# EAGLE library part OCTO8 (library AudioInjector)
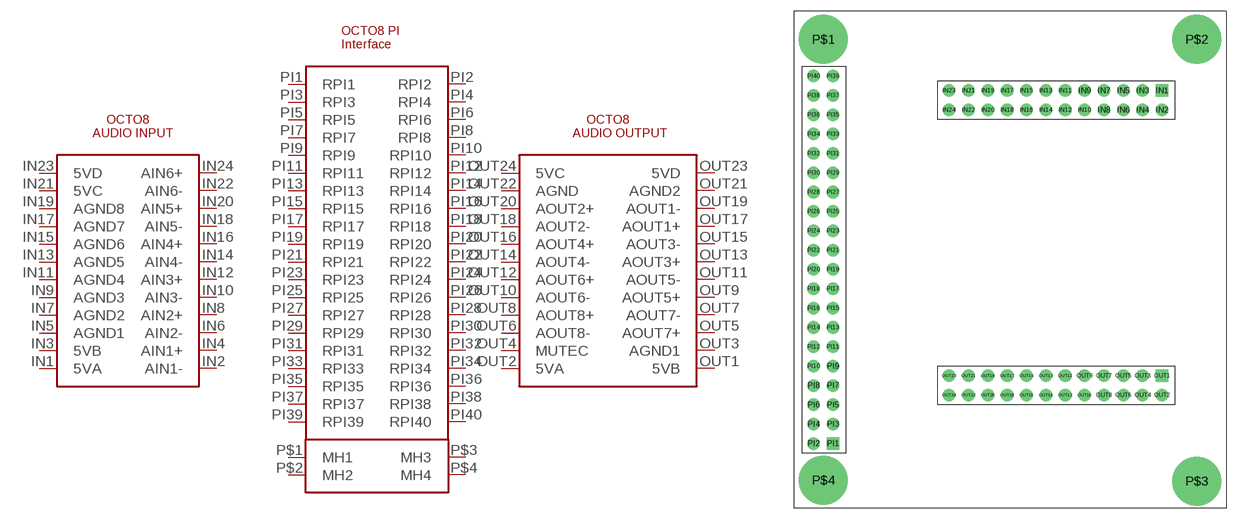
[diagram p0: symbol with the pads of OCTO8; footprint OCTO8]

Designator prefix U; gates G$1=RPI3 G$2=AUDIO_IN G$3=AUDIO_OUT

## OCTO8  [OCTO8]
IN1  G$2:5VA
IN2  G$2:AIN1-
IN3  G$2:5VB
IN4  G$2:AIN1+
IN5  G$2:AGND1
IN6  G$2:AIN2-
IN7  G$2:AGND2
IN8  G$2:AIN2+
IN9  G$2:AGND3
IN10  G$2:AIN3-
IN11  G$2:AGND4
IN12  G$2:AIN3+
IN13  G$2:AGND5
IN14  G$2:AIN4-
IN15  G$2:AGND6
IN16  G$2:AIN4+
IN17  G$2:AGND7
IN18  G$2:AIN5-
IN19  G$2:AGND8
IN20  G$2:AIN5+
IN21  G$2:5VC
IN22  G$2:AIN6-
IN23  G$2:5VD
IN24  G$2:AIN6+
OUT1  G$3:5VB
OUT2  G$3:5VA
OUT3  G$3:AGND1
OUT4  G$3:MUTEC
OUT5  G$3:AOUT7+
OUT6  G$3:AOUT8-
OUT7  G$3:AOUT7-
OUT8  G$3:AOUT8+
OUT9  G$3:AOUT5+
OUT10  G$3:AOUT6-
OUT11  G$3:AOUT5-
OUT12  G$3:AOUT6+
OUT13  G$3:AOUT3+
OUT14  G$3:AOUT4-
OUT15  G$3:AOUT3-
OUT16  G$3:AOUT4+
OUT17  G$3:AOUT1+
OUT18  G$3:AOUT2-
OUT19  G$3:AOUT1-
OUT20  G$3:AOUT2+
OUT21  G$3:AGND2
OUT22  G$3:AGND
OUT23  G$3:5VD
OUT24  G$3:5VC
P$1  G$1:MH1
P$2  G$1:MH2
P$3  G$1:MH3
P$4  G$1:MH4
PI1  G$1:RPI1
PI2  G$1:RPI2
PI3  G$1:RPI3
PI4  G$1:RPI4
PI5  G$1:RPI5
PI6  G$1:RPI6
PI7  G$1:RPI7
PI8  G$1:RPI8
PI9  G$1:RPI9
PI10  G$1:RPI10
PI11  G$1:RPI11
PI12  G$1:RPI12
PI13  G$1:RPI13
PI14  G$1:RPI14
PI15  G$1:RPI15
PI16  G$1:RPI16
PI17  G$1:RPI17
PI18  G$1:RPI18
PI19  G$1:RPI19
PI20  G$1:RPI20
PI21  G$1:RPI21
PI22  G$1:RPI22
PI23  G$1:RPI23
PI24  G$1:RPI24
PI25  G$1:RPI25
PI26  G$1:RPI26
PI27  G$1:RPI27
PI28  G$1:RPI28
PI29  G$1:RPI29
PI30  G$1:RPI30
PI31  G$1:RPI31
PI32  G$1:RPI32
PI33  G$1:RPI33
PI34  G$1:RPI34
PI35  G$1:RPI35
PI36  G$1:RPI36
PI37  G$1:RPI37
PI38  G$1:RPI38
PI39  G$1:RPI39
PI40  G$1:RPI40

## Footprint OCTO8 (pad centres in mm)
drill 1.1 square: IN1 19.939,22.225; OUT1 19.939,-15.24; PI1 -23.241,-24.13
drill 1.1: IN2 19.939,19.685; IN3 17.399,22.225; IN4 17.399,19.685; IN5 14.859,22.225; IN6 14.859,19.685; IN7 12.319,22.225; IN8 12.319,19.685; IN9 9.779,22.225; IN10 9.779,19.685; IN11 7.239,22.225; IN12 7.239,19.685; IN13 4.699,22.225; IN14 4.699,19.685; IN15 2.159,22.225; IN16 2.159,19.685; IN17 -0.381,22.225; IN18 -0.381,19.685; IN19 -2.921,22.225; IN20 -2.921,19.685; IN21 -5.461,22.225; IN22 -5.461,19.685; IN23 -8.001,22.225; IN24 -8.001,19.685; OUT2 19.939,-17.78; OUT3 17.399,-15.24; OUT4 17.399,-17.78; OUT5 14.859,-15.24; OUT6 14.859,-17.78; OUT7 12.319,-15.24; OUT8 12.319,-17.78; OUT9 9.779,-15.24; OUT10 9.779,-17.78; OUT11 7.239,-15.24; OUT12 7.239,-17.78; OUT13 4.699,-15.24; OUT14 4.699,-17.78; OUT15 2.159,-15.24; OUT16 2.159,-17.78; OUT17 -0.381,-15.24; OUT18 -0.381,-17.78; OUT19 -2.921,-15.24; OUT20 -2.921,-17.78; OUT21 -5.461,-15.24; OUT22 -5.461,-17.78; OUT23 -8.001,-15.24; OUT24 -8.001,-17.78; PI2 -25.781,-24.13; PI3 -23.241,-21.59; PI4 -25.781,-21.59; PI5 -23.241,-19.05; PI6 -25.781,-19.05; PI7 -23.241,-16.51; PI8 -25.781,-16.51; PI9 -23.241,-13.97; PI10 -25.781,-13.97; PI11 -23.241,-11.43; PI12 -25.781,-11.43; PI13 -23.241,-8.89; PI14 -25.781,-8.89; PI15 -23.241,-6.35; PI16 -25.781,-6.35; PI17 -23.241,-3.81; PI18 -25.781,-3.81; PI19 -23.241,-1.27; PI20 -25.781,-1.27; PI21 -23.241,1.27; PI22 -25.781,1.27; PI23 -23.241,3.81; PI24 -25.781,3.81; PI25 -23.241,6.35; PI26 -25.781,6.35; PI27 -23.241,8.89; PI28 -25.781,8.89; PI29 -23.241,11.43; PI30 -25.781,11.43; PI31 -23.241,13.97; PI32 -25.781,13.97; PI33 -23.241,16.51; PI34 -25.781,16.51; PI35 -23.241,19.05; PI36 -25.781,19.05; PI37 -23.241,21.59; PI38 -25.781,21.59; PI39 -23.241,24.13; PI40 -25.781,24.13
drill 3.2 pad 6.452: P$1 -24.511,28.956; P$2 24.511,28.956; P$3 24.511,-29.083; P$4 -24.511,-28.956